# EAGLE library part MAX619 (library 000001)
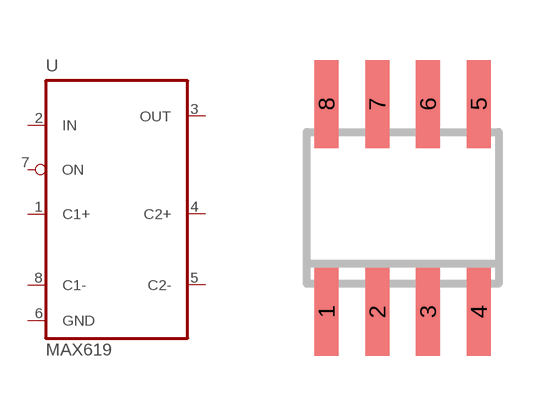
[diagram p97: symbol with the pads of SO-08; footprint SO-08]

Designator prefix -

## MAX619CSA  [SO-08]
1  C1+  pwr
2  IN  pwr
3  OUT  pwr
4  C2+  pwr
5  C2-  pwr
6  GND  pwr
7  ON  in
8  C1-  pwr

## Footprint SO-08 (pad centres in mm)
Small Outline Narrow Plastic Gull Wing 150-mil body, package type SN
smd 0.6 x 2.2: 1 -1.905,-2.6; 2 -0.635,-2.6; 3 0.635,-2.6; 4 1.905,-2.6; 5 1.905,2.6; 6 0.635,2.6; 7 -0.635,2.6; 8 -1.905,2.6